# Altium integrated library Linear Technology Power Management uModule Regulators.IntLib: 166 symbols (part 60 of 67)
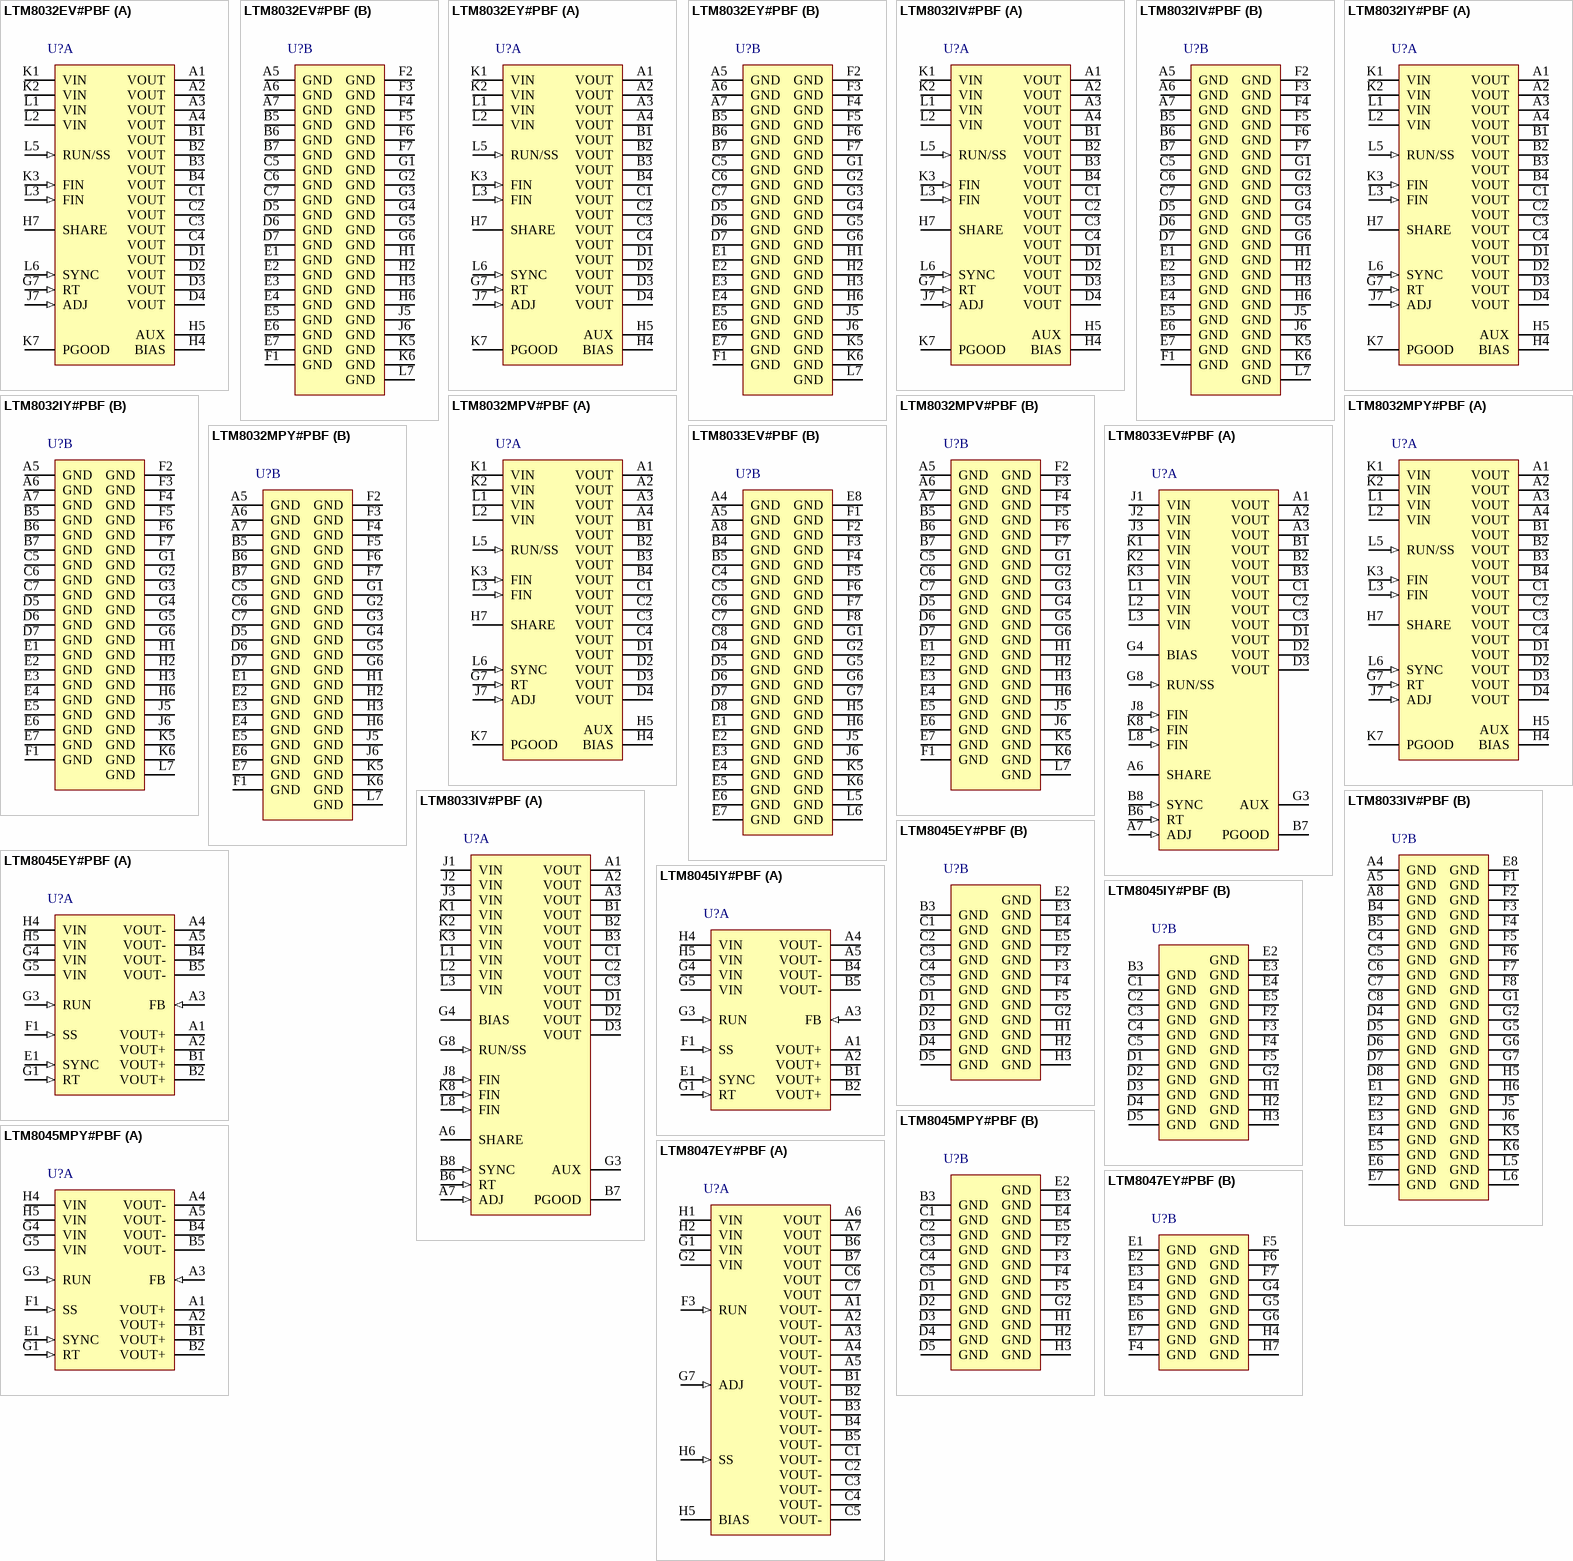
[diagram p86: symbols LTM8032EV#PBF to LTM8047EY#PBF]

## LTM8045EY#PBF
designator U?
Inverting or SEPIC uModule DC/DC Converter with Up to 700 mA Output Current, 40-pin BGA, -40 to 125 degC, Pb-Free, Tray; Manufacturer: Linear Technology; PartNumber: LTM8045EY#PBF; Extended Temp: E, I, MP; Frequency Adjust Range: 200kHz - 2MHz; Frequency(kHz): 2000; Ishutdown(uA): 1; Isupply(mA): 10; Switch Current(A): 3; Synchronous: no; Topology: Sepic, Inverting; Vin Max(V): 18; Vin Min(V): 2.8; DatasheetVersion: Rev. A; PackageVersion: Rev. Ø, 08/2010; PackageReference: BGA-40; PackageDescription: 40-Ball BGA, Body 11.25 x 6.25 mm, Pitch 1.27 mm; Supplier 1: Digi-Key; Supplier Part Number 1: LTM8045EY#PBF-ND; Supplier 2: Farnell; Supplier Part Number 2: 2313469; Supplier 3: Farnell; Supplier Part Number 3: 2299772; Supplier 4: Newark; Supplier Part Number 4: 64W5995; Frequency Sync Range: 200kHz - 2MHz; Number of Outputs: 1; Packing: Tray; RoHS: TRUE; Tracking: no; Vout Max(V): 18; Vswitch Max(V): 18; Mounting Technology: Surface Mount; Code_JEDEC: MS-028; ComponentLink1Description: Manufacturer URL; ComponentLink1URL: http://www.linear.com/; ComponentLink2Description: Datasheet; ComponentLink2URL: http://cds.linear.com/docs/en/datasheet/8045fa.pdf; ComponentLink3Description: Package Specification; ComponentLink3URL: http://cds.linear.com/docs/en/packaging/BGA_40_05-08-1867.pdf
footprint LT-BGA-40-11250X6250X4920 (BGA, 40-Balls, Body 11.25x6.25mm, Pitch 1.27mm)
part A pins: A1 VOUT+ (power) "VOUT+ is the positive output of the LTM8045. Apply an external capacitor between VOUT+ and VOUT-. Tie this net to GND to configure the LTM8045 as a negative output inverting regulator.", A2 VOUT+ (power) "VOUT+ is the positive output of the LTM8045. Apply an external capacitor between VOUT+ and VOUT-. Tie this net to GND to configure the LTM8045 as a negative output inverting regulator.", A3 FB (in) "If configured as a SEPIC, the LTM8045 regulates its FB pin to 1.215V. Apply a resistor between FB and VOUT+. Its value should be RFB = [(VOUT- 1.215)/ 0.0833]kohm. If the LTM8045 is configured as an inverting converter, the (See Datasheet)", A4 VOUT- (power) "VOUT- is the negative output of the LTM8045. Apply an external capacitor between VOUT+ and VOUT-. Tie this net to GND to configure the LTM8045 as a positive output SEPIC regulator.", A5 VOUT- (power) "VOUT- is the negative output of the LTM8045. Apply an external capacitor between VOUT+ and VOUT-. Tie this net to GND to configure the LTM8045 as a positive output SEPIC regulator.", B1 VOUT+ (power) "VOUT+ is the positive output of the LTM8045. Apply an external capacitor between VOUT+ and VOUT-. Tie this net to GND to configure the LTM8045 as a negative output inverting regulator.", B2 VOUT+ (power) "VOUT+ is the positive output of the LTM8045. Apply an external capacitor between VOUT+ and VOUT-. Tie this net to GND to configure the LTM8045 as a negative output inverting regulator.", B4 VOUT- (power) "VOUT- is the negative output of the LTM8045. Apply an external capacitor between VOUT+ and VOUT-. Tie this net to GND to configure the LTM8045 as a positive output SEPIC regulator.", B5 VOUT- (power) "VOUT- is the negative output of the LTM8045. Apply an external capacitor between VOUT+ and VOUT-. Tie this net to GND to configure the LTM8045 as a positive output SEPIC regulator.", E1 SYNC (in) "To synchronize the switching frequency to an outside clock, simply drive this pin with a clock. The high voltage level of the clock needs to exceed 1.3V, and the low level should be less than 0.4V. Drive this pin to less (See Datasheet)", F1 SS (in) "Place a soft-start capacitor here. Upon start-up, the SS pin will be charged by a (nominally) 275k resistor to about 2.2V.", G1 RT (in) "The RT pin is used to program the switching frequency of the LTM8045 by connecting a resistor from this pin to ground. The necessary resistor value for the LTM8045 is determined by the equation RT = (91.9/fOSC) - 1, where (See Datasheet)", G3 RUN (in) "This pin is used to enable/disable the chip and restart the soft-start sequence. Drive below 1.235V to disable the chip. Drive above 1.385V to activate chip and restart the soft-start sequence. Do not float this pin.", G4 VIN (power) "The VIN pin supplies current to the LTM8045’s internal regulator and to the internal power switch. This pin must be locally bypassed with an external, low ESR capacitor.", G5 VIN (power) "The VIN pin supplies current to the LTM8045’s internal regulator and to the internal power switch. This pin must be locally bypassed with an external, low ESR capacitor.", H4 VIN (power) "The VIN pin supplies current to the LTM8045’s internal regulator and to the internal power switch. This pin must be locally bypassed with an external, low ESR capacitor.", H5 VIN (power) "The VIN pin supplies current to the LTM8045’s internal regulator and to the internal power switch. This pin must be locally bypassed with an external, low ESR capacitor."
part B pins: B3 GND (power) "Tie these GND pins to a local ground plane below the LTM8045 and the circuit components. GND MUST BE CONNECTED EITHER TO VOUT+ OR VOUT- FOR PROPER OPERATION. In most applications, the bulk of the heat flow out of the LTM8045 (See Datasheet)", C1 GND (power) "Tie these GND pins to a local ground plane below the LTM8045 and the circuit components. GND MUST BE CONNECTED EITHER TO VOUT+ OR VOUT- FOR PROPER OPERATION. In most applications, the bulk of the heat flow out of the LTM8045 (See Datasheet)", C2 GND (power) "Tie these GND pins to a local ground plane below the LTM8045 and the circuit components. GND MUST BE CONNECTED EITHER TO VOUT+ OR VOUT- FOR PROPER OPERATION. In most applications, the bulk of the heat flow out of the LTM8045 (See Datasheet)", C3 GND (power) "Tie these GND pins to a local ground plane below the LTM8045 and the circuit components. GND MUST BE CONNECTED EITHER TO VOUT+ OR VOUT- FOR PROPER OPERATION. In most applications, the bulk of the heat flow out of the LTM8045 (See Datasheet)", C4 GND (power) "Tie these GND pins to a local ground plane below the LTM8045 and the circuit components. GND MUST BE CONNECTED EITHER TO VOUT+ OR VOUT- FOR PROPER OPERATION. In most applications, the bulk of the heat flow out of the LTM8045 (See Datasheet)", C5 GND (power) "Tie these GND pins to a local ground plane below the LTM8045 and the circuit components. GND MUST BE CONNECTED EITHER TO VOUT+ OR VOUT- FOR PROPER OPERATION. In most applications, the bulk of the heat flow out of the LTM8045 (See Datasheet)", D1 GND (power) "Tie these GND pins to a local ground plane below the LTM8045 and the circuit components. GND MUST BE CONNECTED EITHER TO VOUT+ OR VOUT- FOR PROPER OPERATION. In most applications, the bulk of the heat flow out of the LTM8045 (See Datasheet)", D2 GND (power) "Tie these GND pins to a local ground plane below the LTM8045 and the circuit components. GND MUST BE CONNECTED EITHER TO VOUT+ OR VOUT- FOR PROPER OPERATION. In most applications, the bulk of the heat flow out of the LTM8045 (See Datasheet)", D3 GND (power) "Tie these GND pins to a local ground plane below the LTM8045 and the circuit components. GND MUST BE CONNECTED EITHER TO VOUT+ OR VOUT- FOR PROPER OPERATION. In most applications, the bulk of the heat flow out of the LTM8045 (See Datasheet)", D4 GND (power) "Tie these GND pins to a local ground plane below the LTM8045 and the circuit components. GND MUST BE CONNECTED EITHER TO VOUT+ OR VOUT- FOR PROPER OPERATION. In most applications, the bulk of the heat flow out of the LTM8045 (See Datasheet)", D5 GND (power) "Tie these GND pins to a local ground plane below the LTM8045 and the circuit components. GND MUST BE CONNECTED EITHER TO VOUT+ OR VOUT- FOR PROPER OPERATION. In most applications, the bulk of the heat flow out of the LTM8045 (See Datasheet)", E2 GND (power) "Tie these GND pins to a local ground plane below the LTM8045 and the circuit components. GND MUST BE CONNECTED EITHER TO VOUT+ OR VOUT- FOR PROPER OPERATION. In most applications, the bulk of the heat flow out of the LTM8045 (See Datasheet)", E3 GND (power) "Tie these GND pins to a local ground plane below the LTM8045 and the circuit components. GND MUST BE CONNECTED EITHER TO VOUT+ OR VOUT- FOR PROPER OPERATION. In most applications, the bulk of the heat flow out of the LTM8045 (See Datasheet)", E4 GND (power) "Tie these GND pins to a local ground plane below the LTM8045 and the circuit components. GND MUST BE CONNECTED EITHER TO VOUT+ OR VOUT- FOR PROPER OPERATION. In most applications, the bulk of the heat flow out of the LTM8045 (See Datasheet)", E5 GND (power) "Tie these GND pins to a local ground plane below the LTM8045 and the circuit components. GND MUST BE CONNECTED EITHER TO VOUT+ OR VOUT- FOR PROPER OPERATION. In most applications, the bulk of the heat flow out of the LTM8045 (See Datasheet)", F2 GND (power) "Tie these GND pins to a local ground plane below the LTM8045 and the circuit components. GND MUST BE CONNECTED EITHER TO VOUT+ OR VOUT- FOR PROPER OPERATION. In most applications, the bulk of the heat flow out of the LTM8045 (See Datasheet)", F3 GND (power) "Tie these GND pins to a local ground plane below the LTM8045 and the circuit components. GND MUST BE CONNECTED EITHER TO VOUT+ OR VOUT- FOR PROPER OPERATION. In most applications, the bulk of the heat flow out of the LTM8045 (See Datasheet)", F4 GND (power) "Tie these GND pins to a local ground plane below the LTM8045 and the circuit components. GND MUST BE CONNECTED EITHER TO VOUT+ OR VOUT- FOR PROPER OPERATION. In most applications, the bulk of the heat flow out of the LTM8045 (See Datasheet)", F5 GND (power) "Tie these GND pins to a local ground plane below the LTM8045 and the circuit components. GND MUST BE CONNECTED EITHER TO VOUT+ OR VOUT- FOR PROPER OPERATION. In most applications, the bulk of the heat flow out of the LTM8045 (See Datasheet)", G2 GND (power) "Tie these GND pins to a local ground plane below the LTM8045 and the circuit components. GND MUST BE CONNECTED EITHER TO VOUT+ OR VOUT- FOR PROPER OPERATION. In most applications, the bulk of the heat flow out of the LTM8045 (See Datasheet)", H1 GND (power) "Tie these GND pins to a local ground plane below the LTM8045 and the circuit components. GND MUST BE CONNECTED EITHER TO VOUT+ OR VOUT- FOR PROPER OPERATION. In most applications, the bulk of the heat flow out of the LTM8045 (See Datasheet)", H2 GND (power) "Tie these GND pins to a local ground plane below the LTM8045 and the circuit components. GND MUST BE CONNECTED EITHER TO VOUT+ OR VOUT- FOR PROPER OPERATION. In most applications, the bulk of the heat flow out of the LTM8045 (See Datasheet)", H3 GND (power) "Tie these GND pins to a local ground plane below the LTM8045 and the circuit components. GND MUST BE CONNECTED EITHER TO VOUT+ OR VOUT- FOR PROPER OPERATION. In most applications, the bulk of the heat flow out of the LTM8045 (See Datasheet)"

## LTM8045IY#PBF
designator U?
Inverting or SEPIC uModule DC/DC Converter with Up to 700 mA Output Current, 40-pin BGA, -40 to 125 degC, Pb-Free, Tray; Manufacturer: Linear Technology; PartNumber: LTM8045IY#PBF; Extended Temp: E, I, MP; Frequency Adjust Range: 200kHz - 2MHz; Frequency(kHz): 2000; Ishutdown(uA): 1; Isupply(mA): 10; Switch Current(A): 3; Synchronous: no; Topology: Sepic, Inverting; Vin Max(V): 18; Vin Min(V): 2.8; DatasheetVersion: Rev. A; PackageVersion: Rev. Ø, 08/2010; PackageReference: BGA-40; PackageDescription: 40-Ball BGA, Body 11.25 x 6.25 mm, Pitch 1.27 mm; Supplier 1: Digi-Key; Supplier Part Number 1: LTM8045IY#PBF-ND; Supplier 2: Farnell; Supplier Part Number 2: 2313470; Supplier 3: Farnell; Supplier Part Number 3: 2299774; Supplier 4: Newark; Supplier Part Number 4: 64W5996; Frequency Sync Range: 200kHz - 2MHz; Number of Outputs: 1; Packing: Tray; RoHS: TRUE; Tracking: no; Vout Max(V): 18; Vswitch Max(V): 18; Mounting Technology: Surface Mount; Code_JEDEC: MS-028; ComponentLink1Description: Manufacturer URL; ComponentLink1URL: http://www.linear.com/; ComponentLink2Description: Datasheet; ComponentLink2URL: http://cds.linear.com/docs/en/datasheet/8045fa.pdf; ComponentLink3Description: Package Specification; ComponentLink3URL: http://cds.linear.com/docs/en/packaging/BGA_40_05-08-1867.pdf
footprint LT-BGA-40-11250X6250X4920 (BGA, 40-Balls, Body 11.25x6.25mm, Pitch 1.27mm)
part A pins: A1 VOUT+ (power) "VOUT+ is the positive output of the LTM8045. Apply an external capacitor between VOUT+ and VOUT-. Tie this net to GND to configure the LTM8045 as a negative output inverting regulator.", A2 VOUT+ (power) "VOUT+ is the positive output of the LTM8045. Apply an external capacitor between VOUT+ and VOUT-. Tie this net to GND to configure the LTM8045 as a negative output inverting regulator.", A3 FB (in) "If configured as a SEPIC, the LTM8045 regulates its FB pin to 1.215V. Apply a resistor between FB and VOUT+. Its value should be RFB = [(VOUT- 1.215)/ 0.0833]kohm. If the LTM8045 is configured as an inverting converter, the (See Datasheet)", A4 VOUT- (power) "VOUT- is the negative output of the LTM8045. Apply an external capacitor between VOUT+ and VOUT-. Tie this net to GND to configure the LTM8045 as a positive output SEPIC regulator.", A5 VOUT- (power) "VOUT- is the negative output of the LTM8045. Apply an external capacitor between VOUT+ and VOUT-. Tie this net to GND to configure the LTM8045 as a positive output SEPIC regulator.", B1 VOUT+ (power) "VOUT+ is the positive output of the LTM8045. Apply an external capacitor between VOUT+ and VOUT-. Tie this net to GND to configure the LTM8045 as a negative output inverting regulator.", B2 VOUT+ (power) "VOUT+ is the positive output of the LTM8045. Apply an external capacitor between VOUT+ and VOUT-. Tie this net to GND to configure the LTM8045 as a negative output inverting regulator.", B4 VOUT- (power) "VOUT- is the negative output of the LTM8045. Apply an external capacitor between VOUT+ and VOUT-. Tie this net to GND to configure the LTM8045 as a positive output SEPIC regulator.", B5 VOUT- (power) "VOUT- is the negative output of the LTM8045. Apply an external capacitor between VOUT+ and VOUT-. Tie this net to GND to configure the LTM8045 as a positive output SEPIC regulator.", E1 SYNC (in) "To synchronize the switching frequency to an outside clock, simply drive this pin with a clock. The high voltage level of the clock needs to exceed 1.3V, and the low level should be less than 0.4V. Drive this pin to less (See Datasheet)", F1 SS (in) "Place a soft-start capacitor here. Upon start-up, the SS pin will be charged by a (nominally) 275k resistor to about 2.2V.", G1 RT (in) "The RT pin is used to program the switching frequency of the LTM8045 by connecting a resistor from this pin to ground. The necessary resistor value for the LTM8045 is determined by the equation RT = (91.9/fOSC) - 1, where (See Datasheet)", G3 RUN (in) "This pin is used to enable/disable the chip and restart the soft-start sequence. Drive below 1.235V to disable the chip. Drive above 1.385V to activate chip and restart the soft-start sequence. Do not float this pin.", G4 VIN (power) "The VIN pin supplies current to the LTM8045’s internal regulator and to the internal power switch. This pin must be locally bypassed with an external, low ESR capacitor.", G5 VIN (power) "The VIN pin supplies current to the LTM8045’s internal regulator and to the internal power switch. This pin must be locally bypassed with an external, low ESR capacitor.", H4 VIN (power) "The VIN pin supplies current to the LTM8045’s internal regulator and to the internal power switch. This pin must be locally bypassed with an external, low ESR capacitor.", H5 VIN (power) "The VIN pin supplies current to the LTM8045’s internal regulator and to the internal power switch. This pin must be locally bypassed with an external, low ESR capacitor."
part B pins: B3 GND (power) "Tie these GND pins to a local ground plane below the LTM8045 and the circuit components. GND MUST BE CONNECTED EITHER TO VOUT+ OR VOUT- FOR PROPER OPERATION. In most applications, the bulk of the heat flow out of the LTM8045 (See Datasheet)", C1 GND (power) "Tie these GND pins to a local ground plane below the LTM8045 and the circuit components. GND MUST BE CONNECTED EITHER TO VOUT+ OR VOUT- FOR PROPER OPERATION. In most applications, the bulk of the heat flow out of the LTM8045 (See Datasheet)", C2 GND (power) "Tie these GND pins to a local ground plane below the LTM8045 and the circuit components. GND MUST BE CONNECTED EITHER TO VOUT+ OR VOUT- FOR PROPER OPERATION. In most applications, the bulk of the heat flow out of the LTM8045 (See Datasheet)", C3 GND (power) "Tie these GND pins to a local ground plane below the LTM8045 and the circuit components. GND MUST BE CONNECTED EITHER TO VOUT+ OR VOUT- FOR PROPER OPERATION. In most applications, the bulk of the heat flow out of the LTM8045 (See Datasheet)", C4 GND (power) "Tie these GND pins to a local ground plane below the LTM8045 and the circuit components. GND MUST BE CONNECTED EITHER TO VOUT+ OR VOUT- FOR PROPER OPERATION. In most applications, the bulk of the heat flow out of the LTM8045 (See Datasheet)", C5 GND (power) "Tie these GND pins to a local ground plane below the LTM8045 and the circuit components. GND MUST BE CONNECTED EITHER TO VOUT+ OR VOUT- FOR PROPER OPERATION. In most applications, the bulk of the heat flow out of the LTM8045 (See Datasheet)", D1 GND (power) "Tie these GND pins to a local ground plane below the LTM8045 and the circuit components. GND MUST BE CONNECTED EITHER TO VOUT+ OR VOUT- FOR PROPER OPERATION. In most applications, the bulk of the heat flow out of the LTM8045 (See Datasheet)", D2 GND (power) "Tie these GND pins to a local ground plane below the LTM8045 and the circuit components. GND MUST BE CONNECTED EITHER TO VOUT+ OR VOUT- FOR PROPER OPERATION. In most applications, the bulk of the heat flow out of the LTM8045 (See Datasheet)", D3 GND (power) "Tie these GND pins to a local ground plane below the LTM8045 and the circuit components. GND MUST BE CONNECTED EITHER TO VOUT+ OR VOUT- FOR PROPER OPERATION. In most applications, the bulk of the heat flow out of the LTM8045 (See Datasheet)", D4 GND (power) "Tie these GND pins to a local ground plane below the LTM8045 and the circuit components. GND MUST BE CONNECTED EITHER TO VOUT+ OR VOUT- FOR PROPER OPERATION. In most applications, the bulk of the heat flow out of the LTM8045 (See Datasheet)", D5 GND (power) "Tie these GND pins to a local ground plane below the LTM8045 and the circuit components. GND MUST BE CONNECTED EITHER TO VOUT+ OR VOUT- FOR PROPER OPERATION. In most applications, the bulk of the heat flow out of the LTM8045 (See Datasheet)", E2 GND (power) "Tie these GND pins to a local ground plane below the LTM8045 and the circuit components. GND MUST BE CONNECTED EITHER TO VOUT+ OR VOUT- FOR PROPER OPERATION. In most applications, the bulk of the heat flow out of the LTM8045 (See Datasheet)", E3 GND (power) "Tie these GND pins to a local ground plane below the LTM8045 and the circuit components. GND MUST BE CONNECTED EITHER TO VOUT+ OR VOUT- FOR PROPER OPERATION. In most applications, the bulk of the heat flow out of the LTM8045 (See Datasheet)", E4 GND (power) "Tie these GND pins to a local ground plane below the LTM8045 and the circuit components. GND MUST BE CONNECTED EITHER TO VOUT+ OR VOUT- FOR PROPER OPERATION. In most applications, the bulk of the heat flow out of the LTM8045 (See Datasheet)", E5 GND (power) "Tie these GND pins to a local ground plane below the LTM8045 and the circuit components. GND MUST BE CONNECTED EITHER TO VOUT+ OR VOUT- FOR PROPER OPERATION. In most applications, the bulk of the heat flow out of the LTM8045 (See Datasheet)", F2 GND (power) "Tie these GND pins to a local ground plane below the LTM8045 and the circuit components. GND MUST BE CONNECTED EITHER TO VOUT+ OR VOUT- FOR PROPER OPERATION. In most applications, the bulk of the heat flow out of the LTM8045 (See Datasheet)", F3 GND (power) "Tie these GND pins to a local ground plane below the LTM8045 and the circuit components. GND MUST BE CONNECTED EITHER TO VOUT+ OR VOUT- FOR PROPER OPERATION. In most applications, the bulk of the heat flow out of the LTM8045 (See Datasheet)", F4 GND (power) "Tie these GND pins to a local ground plane below the LTM8045 and the circuit components. GND MUST BE CONNECTED EITHER TO VOUT+ OR VOUT- FOR PROPER OPERATION. In most applications, the bulk of the heat flow out of the LTM8045 (See Datasheet)", F5 GND (power) "Tie these GND pins to a local ground plane below the LTM8045 and the circuit components. GND MUST BE CONNECTED EITHER TO VOUT+ OR VOUT- FOR PROPER OPERATION. In most applications, the bulk of the heat flow out of the LTM8045 (See Datasheet)", G2 GND (power) "Tie these GND pins to a local ground plane below the LTM8045 and the circuit components. GND MUST BE CONNECTED EITHER TO VOUT+ OR VOUT- FOR PROPER OPERATION. In most applications, the bulk of the heat flow out of the LTM8045 (See Datasheet)", H1 GND (power) "Tie these GND pins to a local ground plane below the LTM8045 and the circuit components. GND MUST BE CONNECTED EITHER TO VOUT+ OR VOUT- FOR PROPER OPERATION. In most applications, the bulk of the heat flow out of the LTM8045 (See Datasheet)", H2 GND (power) "Tie these GND pins to a local ground plane below the LTM8045 and the circuit components. GND MUST BE CONNECTED EITHER TO VOUT+ OR VOUT- FOR PROPER OPERATION. In most applications, the bulk of the heat flow out of the LTM8045 (See Datasheet)", H3 GND (power) "Tie these GND pins to a local ground plane below the LTM8045 and the circuit components. GND MUST BE CONNECTED EITHER TO VOUT+ OR VOUT- FOR PROPER OPERATION. In most applications, the bulk of the heat flow out of the LTM8045 (See Datasheet)"

## LTM8045MPY#PBF
designator U?
Inverting or SEPIC uModule DC/DC Converter with Up to 700 mA Output Current, 40-pin BGA, -55 to 125 degC, Pb-Free, Tray; Manufacturer: Linear Technology; PartNumber: LTM8045MPY#PBF; Extended Temp: E, I, MP; Frequency Adjust Range: 200kHz - 2MHz; Frequency(kHz): 2000; Ishutdown(uA): 1; Isupply(mA): 10; Switch Current(A): 3; Synchronous: no; Topology: Sepic, Inverting; Vin Max(V): 18; Vin Min(V): 2.8; DatasheetVersion: Rev. A; PackageVersion: Rev. Ø, 08/2010; PackageReference: BGA-40; PackageDescription: 40-Ball BGA, Body 11.25 x 6.25 mm, Pitch 1.27 mm; Supplier 1: Digi-Key; Supplier Part Number 1: LTM8045MPY#PBF-ND; Supplier 2: Farnell; Supplier Part Number 2: 2313471; Supplier 3: Farnell; Supplier Part Number 3: 2299777; Supplier 4: Newark; Supplier Part Number 4: 64W5997; Frequency Sync Range: 200kHz - 2MHz; Number of Outputs: 1; Packing: Tray; RoHS: TRUE; Tracking: no; Vout Max(V): 18; Vswitch Max(V): 18; Mounting Technology: Surface Mount; Code_JEDEC: MS-028; ComponentLink1Description: Manufacturer URL; ComponentLink1URL: http://www.linear.com/; ComponentLink2Description: Datasheet; ComponentLink2URL: http://cds.linear.com/docs/en/datasheet/8045fa.pdf; ComponentLink3Description: Package Specification; ComponentLink3URL: http://cds.linear.com/docs/en/packaging/BGA_40_05-08-1867.pdf
footprint LT-BGA-40-11250X6250X4920 (BGA, 40-Balls, Body 11.25x6.25mm, Pitch 1.27mm)
part A pins: A1 VOUT+ (power) "VOUT+ is the positive output of the LTM8045. Apply an external capacitor between VOUT+ and VOUT-. Tie this net to GND to configure the LTM8045 as a negative output inverting regulator.", A2 VOUT+ (power) "VOUT+ is the positive output of the LTM8045. Apply an external capacitor between VOUT+ and VOUT-. Tie this net to GND to configure the LTM8045 as a negative output inverting regulator.", A3 FB (in) "If configured as a SEPIC, the LTM8045 regulates its FB pin to 1.215V. Apply a resistor between FB and VOUT+. Its value should be RFB = [(VOUT- 1.215)/ 0.0833]kohm. If the LTM8045 is configured as an inverting converter, the (See Datasheet)", A4 VOUT- (power) "VOUT- is the negative output of the LTM8045. Apply an external capacitor between VOUT+ and VOUT-. Tie this net to GND to configure the LTM8045 as a positive output SEPIC regulator.", A5 VOUT- (power) "VOUT- is the negative output of the LTM8045. Apply an external capacitor between VOUT+ and VOUT-. Tie this net to GND to configure the LTM8045 as a positive output SEPIC regulator.", B1 VOUT+ (power) "VOUT+ is the positive output of the LTM8045. Apply an external capacitor between VOUT+ and VOUT-. Tie this net to GND to configure the LTM8045 as a negative output inverting regulator.", B2 VOUT+ (power) "VOUT+ is the positive output of the LTM8045. Apply an external capacitor between VOUT+ and VOUT-. Tie this net to GND to configure the LTM8045 as a negative output inverting regulator.", B4 VOUT- (power) "VOUT- is the negative output of the LTM8045. Apply an external capacitor between VOUT+ and VOUT-. Tie this net to GND to configure the LTM8045 as a positive output SEPIC regulator.", B5 VOUT- (power) "VOUT- is the negative output of the LTM8045. Apply an external capacitor between VOUT+ and VOUT-. Tie this net to GND to configure the LTM8045 as a positive output SEPIC regulator.", E1 SYNC (in) "To synchronize the switching frequency to an outside clock, simply drive this pin with a clock. The high voltage level of the clock needs to exceed 1.3V, and the low level should be less than 0.4V. Drive this pin to less (See Datasheet)", F1 SS (in) "Place a soft-start capacitor here. Upon start-up, the SS pin will be charged by a (nominally) 275k resistor to about 2.2V.", G1 RT (in) "The RT pin is used to program the switching frequency of the LTM8045 by connecting a resistor from this pin to ground. The necessary resistor value for the LTM8045 is determined by the equation RT = (91.9/fOSC) - 1, where (See Datasheet)", G3 RUN (in) "This pin is used to enable/disable the chip and restart the soft-start sequence. Drive below 1.235V to disable the chip. Drive above 1.385V to activate chip and restart the soft-start sequence. Do not float this pin.", G4 VIN (power) "The VIN pin supplies current to the LTM8045’s internal regulator and to the internal power switch. This pin must be locally bypassed with an external, low ESR capacitor.", G5 VIN (power) "The VIN pin supplies current to the LTM8045’s internal regulator and to the internal power switch. This pin must be locally bypassed with an external, low ESR capacitor.", H4 VIN (power) "The VIN pin supplies current to the LTM8045’s internal regulator and to the internal power switch. This pin must be locally bypassed with an external, low ESR capacitor.", H5 VIN (power) "The VIN pin supplies current to the LTM8045’s internal regulator and to the internal power switch. This pin must be locally bypassed with an external, low ESR capacitor."
part B pins: B3 GND (power) "Tie these GND pins to a local ground plane below the LTM8045 and the circuit components. GND MUST BE CONNECTED EITHER TO VOUT+ OR VOUT- FOR PROPER OPERATION. In most applications, the bulk of the heat flow out of the LTM8045 (See Datasheet)", C1 GND (power) "Tie these GND pins to a local ground plane below the LTM8045 and the circuit components. GND MUST BE CONNECTED EITHER TO VOUT+ OR VOUT- FOR PROPER OPERATION. In most applications, the bulk of the heat flow out of the LTM8045 (See Datasheet)", C2 GND (power) "Tie these GND pins to a local ground plane below the LTM8045 and the circuit components. GND MUST BE CONNECTED EITHER TO VOUT+ OR VOUT- FOR PROPER OPERATION. In most applications, the bulk of the heat flow out of the LTM8045 (See Datasheet)", C3 GND (power) "Tie these GND pins to a local ground plane below the LTM8045 and the circuit components. GND MUST BE CONNECTED EITHER TO VOUT+ OR VOUT- FOR PROPER OPERATION. In most applications, the bulk of the heat flow out of the LTM8045 (See Datasheet)", C4 GND (power) "Tie these GND pins to a local ground plane below the LTM8045 and the circuit components. GND MUST BE CONNECTED EITHER TO VOUT+ OR VOUT- FOR PROPER OPERATION. In most applications, the bulk of the heat flow out of the LTM8045 (See Datasheet)", C5 GND (power) "Tie these GND pins to a local ground plane below the LTM8045 and the circuit components. GND MUST BE CONNECTED EITHER TO VOUT+ OR VOUT- FOR PROPER OPERATION. In most applications, the bulk of the heat flow out of the LTM8045 (See Datasheet)", D1 GND (power) "Tie these GND pins to a local ground plane below the LTM8045 and the circuit components. GND MUST BE CONNECTED EITHER TO VOUT+ OR VOUT- FOR PROPER OPERATION. In most applications, the bulk of the heat flow out of the LTM8045 (See Datasheet)", D2 GND (power) "Tie these GND pins to a local ground plane below the LTM8045 and the circuit components. GND MUST BE CONNECTED EITHER TO VOUT+ OR VOUT- FOR PROPER OPERATION. In most applications, the bulk of the heat flow out of the LTM8045 (See Datasheet)", D3 GND (power) "Tie these GND pins to a local ground plane below the LTM8045 and the circuit components. GND MUST BE CONNECTED EITHER TO VOUT+ OR VOUT- FOR PROPER OPERATION. In most applications, the bulk of the heat flow out of the LTM8045 (See Datasheet)", D4 GND (power) "Tie these GND pins to a local ground plane below the LTM8045 and the circuit components. GND MUST BE CONNECTED EITHER TO VOUT+ OR VOUT- FOR PROPER OPERATION. In most applications, the bulk of the heat flow out of the LTM8045 (See Datasheet)", D5 GND (power) "Tie these GND pins to a local ground plane below the LTM8045 and the circuit components. GND MUST BE CONNECTED EITHER TO VOUT+ OR VOUT- FOR PROPER OPERATION. In most applications, the bulk of the heat flow out of the LTM8045 (See Datasheet)", E2 GND (power) "Tie these GND pins to a local ground plane below the LTM8045 and the circuit components. GND MUST BE CONNECTED EITHER TO VOUT+ OR VOUT- FOR PROPER OPERATION. In most applications, the bulk of the heat flow out of the LTM8045 (See Datasheet)", E3 GND (power) "Tie these GND pins to a local ground plane below the LTM8045 and the circuit components. GND MUST BE CONNECTED EITHER TO VOUT+ OR VOUT- FOR PROPER OPERATION. In most applications, the bulk of the heat flow out of the LTM8045 (See Datasheet)", E4 GND (power) "Tie these GND pins to a local ground plane below the LTM8045 and the circuit components. GND MUST BE CONNECTED EITHER TO VOUT+ OR VOUT- FOR PROPER OPERATION. In most applications, the bulk of the heat flow out of the LTM8045 (See Datasheet)", E5 GND (power) "Tie these GND pins to a local ground plane below the LTM8045 and the circuit components. GND MUST BE CONNECTED EITHER TO VOUT+ OR VOUT- FOR PROPER OPERATION. In most applications, the bulk of the heat flow out of the LTM8045 (See Datasheet)", F2 GND (power) "Tie these GND pins to a local ground plane below the LTM8045 and the circuit components. GND MUST BE CONNECTED EITHER TO VOUT+ OR VOUT- FOR PROPER OPERATION. In most applications, the bulk of the heat flow out of the LTM8045 (See Datasheet)", F3 GND (power) "Tie these GND pins to a local ground plane below the LTM8045 and the circuit components. GND MUST BE CONNECTED EITHER TO VOUT+ OR VOUT- FOR PROPER OPERATION. In most applications, the bulk of the heat flow out of the LTM8045 (See Datasheet)", F4 GND (power) "Tie these GND pins to a local ground plane below the LTM8045 and the circuit components. GND MUST BE CONNECTED EITHER TO VOUT+ OR VOUT- FOR PROPER OPERATION. In most applications, the bulk of the heat flow out of the LTM8045 (See Datasheet)", F5 GND (power) "Tie these GND pins to a local ground plane below the LTM8045 and the circuit components. GND MUST BE CONNECTED EITHER TO VOUT+ OR VOUT- FOR PROPER OPERATION. In most applications, the bulk of the heat flow out of the LTM8045 (See Datasheet)", G2 GND (power) "Tie these GND pins to a local ground plane below the LTM8045 and the circuit components. GND MUST BE CONNECTED EITHER TO VOUT+ OR VOUT- FOR PROPER OPERATION. In most applications, the bulk of the heat flow out of the LTM8045 (See Datasheet)", H1 GND (power) "Tie these GND pins to a local ground plane below the LTM8045 and the circuit components. GND MUST BE CONNECTED EITHER TO VOUT+ OR VOUT- FOR PROPER OPERATION. In most applications, the bulk of the heat flow out of the LTM8045 (See Datasheet)", H2 GND (power) "Tie these GND pins to a local ground plane below the LTM8045 and the circuit components. GND MUST BE CONNECTED EITHER TO VOUT+ OR VOUT- FOR PROPER OPERATION. In most applications, the bulk of the heat flow out of the LTM8045 (See Datasheet)", H3 GND (power) "Tie these GND pins to a local ground plane below the LTM8045 and the circuit components. GND MUST BE CONNECTED EITHER TO VOUT+ OR VOUT- FOR PROPER OPERATION. In most applications, the bulk of the heat flow out of the LTM8045 (See Datasheet)"

## LTM8047EY#PBF
designator U?
3.1 VIN to 32 VIN Isolated uModule DC/DC Converter, 45-pin BGA, -40 to 125 degC, Pb-Free, Tray; Manufacturer: Linear Technology; PartNumber: LTM8047EY#PBF; Extended Temp: E, I, MP; Ishutdown(uA): 1; Isupply(mA): 0.85; Output Current(A): 0.44; Synchronous: no; Topology: Buck; Vin Max(V): 32; Vin Min(V): 3.1; Vout Max(V): 12; Vout Min(V): 2.5; PackageVersion: Rev. A, 01/2013; PackageReference: BGA-45; PackageDescription: 45-Ball BGA, Body 11.25 x 9 mm, Pitch 1.27 mm; Supplier 1: Digi-Key; Supplier Part Number 1: LTM8047EY#PBF-ND; Supplier 2: Farnell; Supplier Part Number 2: 2068087; Supplier 3: Newark; Supplier Part Number 3: 78T3672; Number of Outputs: 1; Packing: Tray; RoHS: TRUE; Tracking: no; Mounting Technology: Surface Mount; Code_JEDEC: MS-028; ComponentLink1Description: Manufacturer URL; ComponentLink1URL: http://www.linear.com/; ComponentLink2Description: Datasheet; ComponentLink2URL: http://cds.linear.com/docs/en/datasheet/8047f.pdf; ComponentLink3Description: Package Specification; ComponentLink3URL: http://cds.linear.com/docs/en/packaging/05081869_A_bga45.pdf
footprint LT-BGA-45-11250X9000X4920 (BGA, 45-Balls, Body 11.25x9mm, Pitch 1.27mm)
part A pins: A1 VOUT- (power) "VOUT- is the return for VOUT. VOUT and VOUT- comprise the isolated output of the LTM8047. In most applications, the bulk of the heat flow out of the LTM8047 is through the GND and VOUT- pads, so the printed circuit design (See Datasheet)", A2 VOUT- (power) "VOUT- is the return for VOUT. VOUT and VOUT- comprise the isolated output of the LTM8047. In most applications, the bulk of the heat flow out of the LTM8047 is through the GND and VOUT- pads, so the printed circuit design (See Datasheet)", A3 VOUT- (power) "VOUT- is the return for VOUT. VOUT and VOUT- comprise the isolated output of the LTM8047. In most applications, the bulk of the heat flow out of the LTM8047 is through the GND and VOUT- pads, so the printed circuit design (See Datasheet)", A4 VOUT- (power) "VOUT- is the return for VOUT. VOUT and VOUT- comprise the isolated output of the LTM8047. In most applications, the bulk of the heat flow out of the LTM8047 is through the GND and VOUT- pads, so the printed circuit design (See Datasheet)", A5 VOUT- (power) "VOUT- is the return for VOUT. VOUT and VOUT- comprise the isolated output of the LTM8047. In most applications, the bulk of the heat flow out of the LTM8047 is through the GND and VOUT- pads, so the printed circuit design (See Datasheet)", A6 VOUT (power) "VOUT and VOUT- comprise the isolated output of the LTM8047 flyback stage. Apply an external capacitor between VOUT and VOUT-. Do not allow VOUT- to exceed VOUT.", A7 VOUT (power) "VOUT and VOUT- comprise the isolated output of the LTM8047 flyback stage. Apply an external capacitor between VOUT and VOUT-. Do not allow VOUT- to exceed VOUT.", B1 VOUT- (power) "VOUT- is the return for VOUT. VOUT and VOUT- comprise the isolated output of the LTM8047. In most applications, the bulk of the heat flow out of the LTM8047 is through the GND and VOUT- pads, so the printed circuit design (See Datasheet)", B2 VOUT- (power) "VOUT- is the return for VOUT. VOUT and VOUT- comprise the isolated output of the LTM8047. In most applications, the bulk of the heat flow out of the LTM8047 is through the GND and VOUT- pads, so the printed circuit design (See Datasheet)", B3 VOUT- (power) "VOUT- is the return for VOUT. VOUT and VOUT- comprise the isolated output of the LTM8047. In most applications, the bulk of the heat flow out of the LTM8047 is through the GND and VOUT- pads, so the printed circuit design (See Datasheet)", B4 VOUT- (power) "VOUT- is the return for VOUT. VOUT and VOUT- comprise the isolated output of the LTM8047. In most applications, the bulk of the heat flow out of the LTM8047 is through the GND and VOUT- pads, so the printed circuit design (See Datasheet)", B5 VOUT- (power) "VOUT- is the return for VOUT. VOUT and VOUT- comprise the isolated output of the LTM8047. In most applications, the bulk of the heat flow out of the LTM8047 is through the GND and VOUT- pads, so the printed circuit design (See Datasheet)", B6 VOUT (power) "VOUT and VOUT- comprise the isolated output of the LTM8047 flyback stage. Apply an external capacitor between VOUT and VOUT-. Do not allow VOUT- to exceed VOUT.", B7 VOUT (power) "VOUT and VOUT- comprise the isolated output of the LTM8047 flyback stage. Apply an external capacitor between VOUT and VOUT-. Do not allow VOUT- to exceed VOUT.", C1 VOUT- (power) "VOUT- is the return for VOUT. VOUT and VOUT- comprise the isolated output of the LTM8047. In most applications, the bulk of the heat flow out of the LTM8047 is through the GND and VOUT- pads, so the printed circuit design (See Datasheet)", C2 VOUT- (power) "VOUT- is the return for VOUT. VOUT and VOUT- comprise the isolated output of the LTM8047. In most applications, the bulk of the heat flow out of the LTM8047 is through the GND and VOUT- pads, so the printed circuit design (See Datasheet)", C3 VOUT- (power) "VOUT- is the return for VOUT. VOUT and VOUT- comprise the isolated output of the LTM8047. In most applications, the bulk of the heat flow out of the LTM8047 is through the GND and VOUT- pads, so the printed circuit design (See Datasheet)", C4 VOUT- (power) "VOUT- is the return for VOUT. VOUT and VOUT- comprise the isolated output of the LTM8047. In most applications, the bulk of the heat flow out of the LTM8047 is through the GND and VOUT- pads, so the printed circuit design (See Datasheet)", C5 VOUT- (power) "VOUT- is the return for VOUT. VOUT and VOUT- comprise the isolated output of the LTM8047. In most applications, the bulk of the heat flow out of the LTM8047 is through the GND and VOUT- pads, so the printed circuit design (See Datasheet)", C6 VOUT (power) "VOUT and VOUT- comprise the isolated output of the LTM8047 flyback stage. Apply an external capacitor between VOUT and VOUT-. Do not allow VOUT- to exceed VOUT.", C7 VOUT (power) "VOUT and VOUT- comprise the isolated output of the LTM8047 flyback stage. Apply an external capacitor between VOUT and VOUT-. Do not allow VOUT- to exceed VOUT.", F3 RUN (in) "A resistive divider connected to VIN and this pin programs the minimum voltage at which the LTM8047 will operate. Below 1.24V, the LTM8047 does not deliver power to the secondary. Above 1.24V, power will be delivered to the (See Datasheet)", G1 VIN (power) "VIN supplies current to the LTM8047’s internal regulator and to the integrated power switch. These pins must be locally bypassed with an external, low ESR capacitor.", G2 VIN (power) "VIN supplies current to the LTM8047’s internal regulator and to the integrated power switch. These pins must be locally bypassed with an external, low ESR capacitor.", G7 ADJ (in) "Apply a resistor from this pin to GND to set the output voltage, using the recommended value given in Table 1.", H1 VIN (power) "VIN supplies current to the LTM8047’s internal regulator and to the integrated power switch. These pins must be locally bypassed with an external, low ESR capacitor.", H2 VIN (power) "VIN supplies current to the LTM8047’s internal regulator and to the integrated power switch. These pins must be locally bypassed with an external, low ESR capacitor.", H5 BIAS (power) "This pin supplies the power necessary to operate the LTM8047. It must be locally bypassed with a low ESR capacitor of at least 4.7uF. Do not allow this pin voltage to rise above VIN.", H6 SS (in) "Place a soft-start capacitor here to limit inrush current and the output voltage ramp rate. Do not allow a negative voltage (relative to GND) on this pin."
part B pins: E1 GND (power) "This is the primary side local ground of the LTM8047 primary. In most applications, the bulk of the heat flow out of the LTM8047 is through the GND and VOUT- pads, so the printed circuit design has a large impact on the (See Datasheet)", E2 GND (power) "This is the primary side local ground of the LTM8047 primary. In most applications, the bulk of the heat flow out of the LTM8047 is through the GND and VOUT- pads, so the printed circuit design has a large impact on the (See Datasheet)", E3 GND (power) "This is the primary side local ground of the LTM8047 primary. In most applications, the bulk of the heat flow out of the LTM8047 is through the GND and VOUT- pads, so the printed circuit design has a large impact on the (See Datasheet)", E4 GND (power) "This is the primary side local ground of the LTM8047 primary. In most applications, the bulk of the heat flow out of the LTM8047 is through the GND and VOUT- pads, so the printed circuit design has a large impact on the (See Datasheet)", E5 GND (power) "This is the primary side local ground of the LTM8047 primary. In most applications, the bulk of the heat flow out of the LTM8047 is through the GND and VOUT- pads, so the printed circuit design has a large impact on the (See Datasheet)", E6 GND (power) "This is the primary side local ground of the LTM8047 primary. In most applications, the bulk of the heat flow out of the LTM8047 is through the GND and VOUT- pads, so the printed circuit design has a large impact on the (See Datasheet)", E7 GND (power) "This is the primary side local ground of the LTM8047 primary. In most applications, the bulk of the heat flow out of the LTM8047 is through the GND and VOUT- pads, so the printed circuit design has a large impact on the (See Datasheet)", F4 GND (power) "This is the primary side local ground of the LTM8047 primary. In most applications, the bulk of the heat flow out of the LTM8047 is through the GND and VOUT- pads, so the printed circuit design has a large impact on the (See Datasheet)", F5 GND (power) "This is the primary side local ground of the LTM8047 primary. In most applications, the bulk of the heat flow out of the LTM8047 is through the GND and VOUT- pads, so the printed circuit design has a large impact on the (See Datasheet)", F6 GND (power) "This is the primary side local ground of the LTM8047 primary. In most applications, the bulk of the heat flow out of the LTM8047 is through the GND and VOUT- pads, so the printed circuit design has a large impact on the (See Datasheet)", F7 GND (power) "This is the primary side local ground of the LTM8047 primary. In most applications, the bulk of the heat flow out of the LTM8047 is through the GND and VOUT- pads, so the printed circuit design has a large impact on the (See Datasheet)", G4 GND (power) "This is the primary side local ground of the LTM8047 primary. In most applications, the bulk of the heat flow out of the LTM8047 is through the GND and VOUT- pads, so the printed circuit design has a large impact on the (See Datasheet)", G5 GND (power) "This is the primary side local ground of the LTM8047 primary. In most applications, the bulk of the heat flow out of the LTM8047 is through the GND and VOUT- pads, so the printed circuit design has a large impact on the (See Datasheet)", G6 GND (power) "This is the primary side local ground of the LTM8047 primary. In most applications, the bulk of the heat flow out of the LTM8047 is through the GND and VOUT- pads, so the printed circuit design has a large impact on the (See Datasheet)", H4 GND (power) "This is the primary side local ground of the LTM8047 primary. In most applications, the bulk of the heat flow out of the LTM8047 is through the GND and VOUT- pads, so the printed circuit design has a large impact on the (See Datasheet)", H7 GND (power) "This is the primary side local ground of the LTM8047 primary. In most applications, the bulk of the heat flow out of the LTM8047 is through the GND and VOUT- pads, so the printed circuit design has a large impact on the (See Datasheet)"

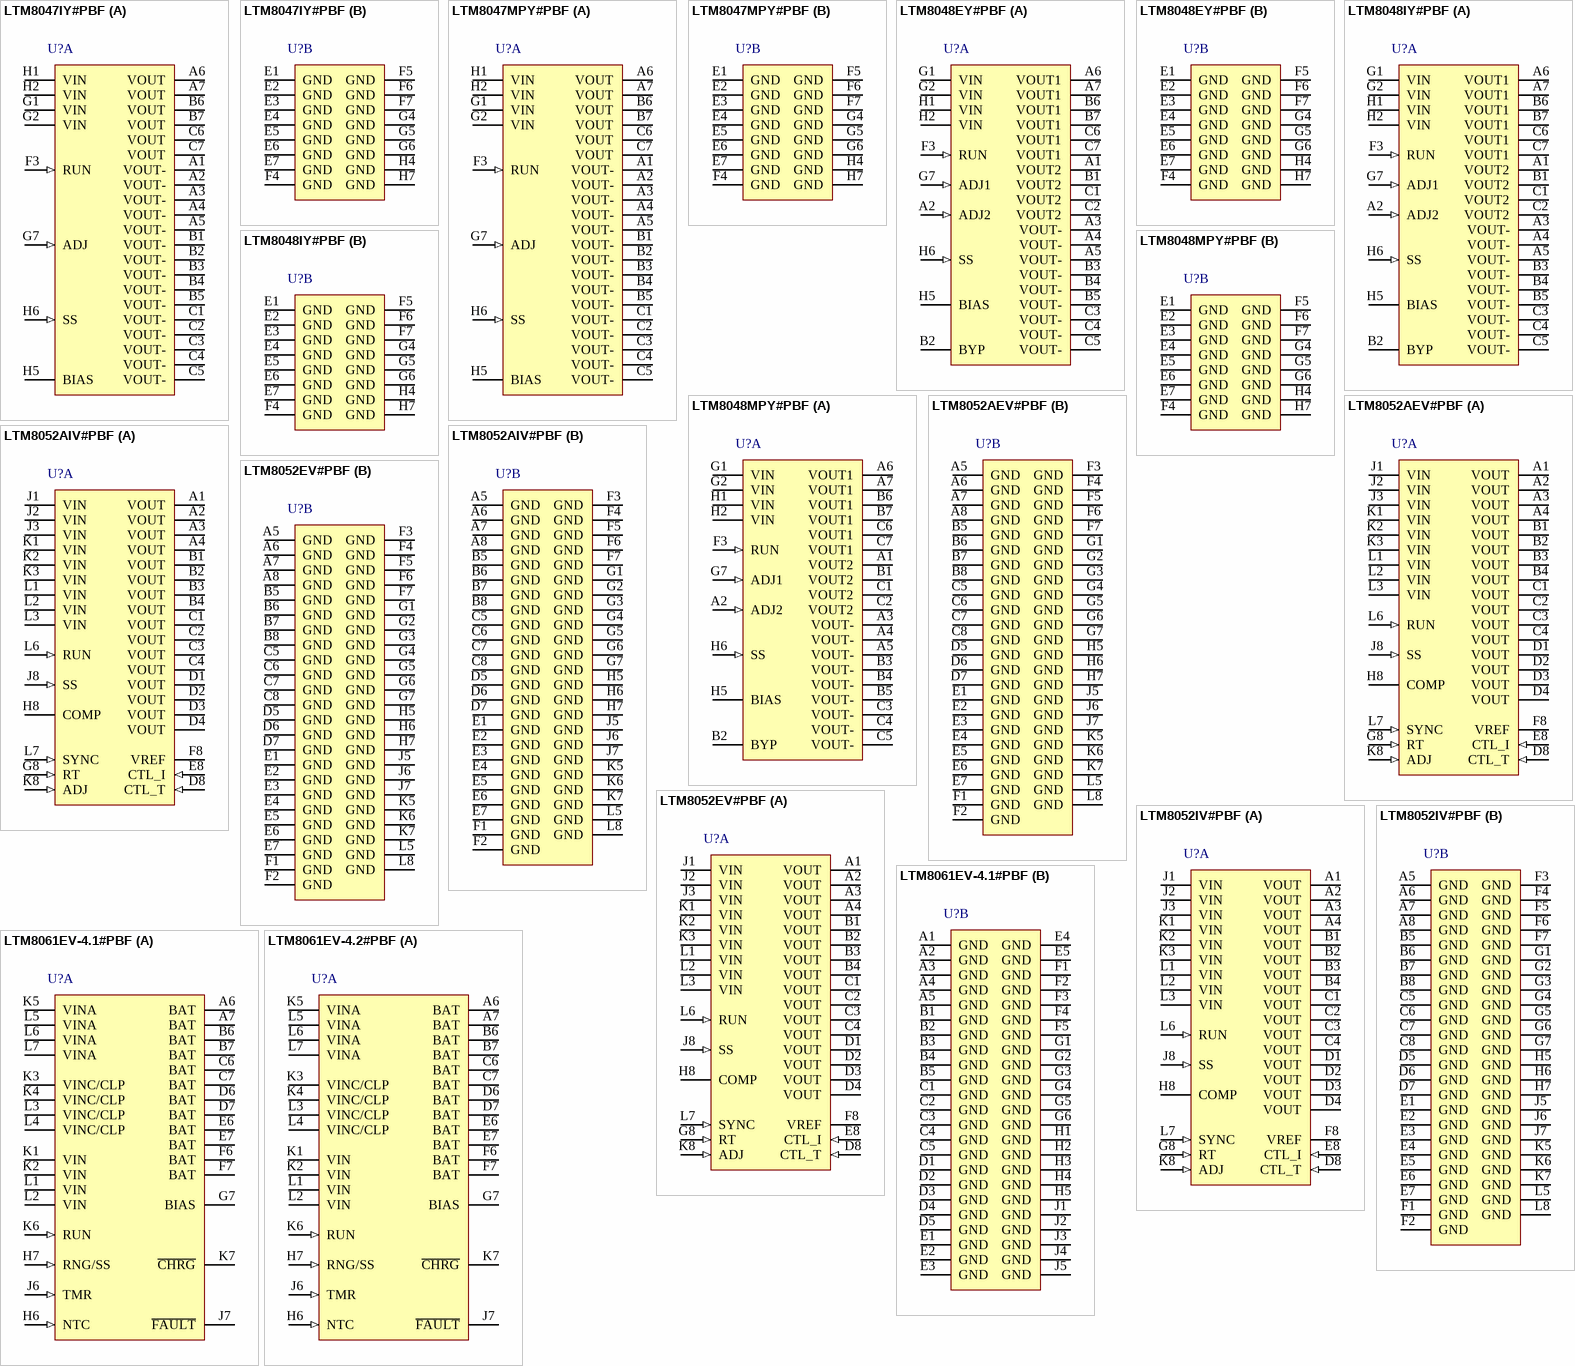
[diagram p25: symbols LTM8047IY#PBF to LTM8061EV-4.2#PBF]